# EAGLE library part 18016304401H (library WPME-CDIS)
WPME-CDIS Capacitive Digital Isolator Standard Characteristics 2- and 4-channel digital isolators Isolation voltage up to 5000 VRMS Basic (SOIC-8NB) and reinforced (SOIC-16WB) insulation Signal transmission in high-speed applications (data rate up to 150 Mbps) High level of immunity to system noise (CMTI ±150 kV/μs) Industrial standard package and pin configuration UL 1577 recognized DIN EN IEC 60747-17 (VDE 0884-17) certification Applications Isolated communication interfaces (SPI, CAN, RS-232, RS-485) Motor Control Industrial SMPS Test and measurement systems Microcontroller and DSP application Industrial automation Programmable logic controller (PLC) interfaces Battery management systems Solar inverters Level shifters <https://www.we-online.com/components/media/o758945v209%20Family-Image-onlinecatalog-Digital-Isolators.jpg> Details see: www.we-online.com/en/components/products/DIGITAL-ISOLATORS-WPME-CDIS_1 <www.we-online.com/catalog/DIGITAL-ISOLATORS-WPME-CDIS_1/?utm_source=eagle_model&utm_medium=description_link&utm_campaign=eisos_eagle> Created by Ella 2026-03-09 2026 (C) Würth Elektronik
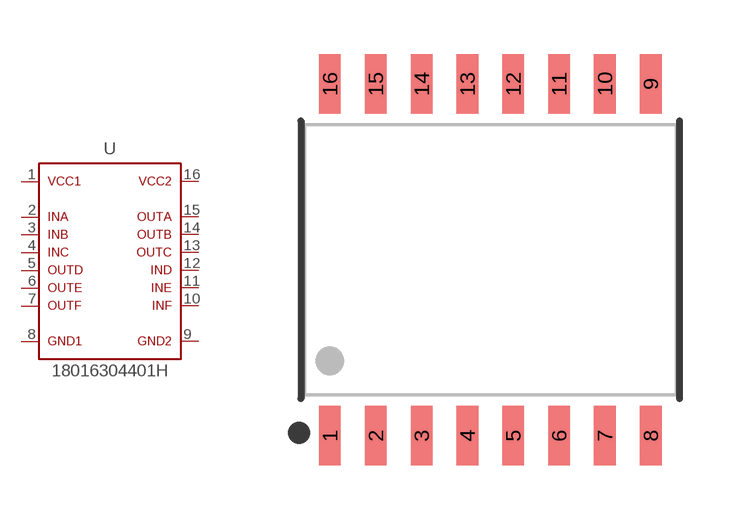
[diagram p18: symbol with the pads of WPME-CDIS_SOIC16WB_18016X; footprint WPME-CDIS_SOIC16WB_18016X]

Designator prefix U

## 18016304401H (CHANNEL-CONFIGURATION: 3/3; CMTI: 150 kV/us; DATASHEET-URL: https://www.we-online.com/redexpert/spec/18016304401H?ae; DR: 40 Mbps; HEIGHT: 2.65mm; LENGTH: 10.3mm; MOUNT: SMT; PART-NUMBER: 18016304401H; SIZE: SOIC 16WB; STANDARDAUSGABE: High; TPLH-TPHL: 22 ns; VALUE: 18016304401H; VCC-MAX: 5.5 V; VCC-MIN: 3 V; VISO: 5000 V (RMS); WIDTH: 10.3mm)  [WPME-CDIS_SOIC16WB_18016X]
1  1  pas
2  2  pas
3  3  pas
4  4  pas
5  5  pas
6  6  pas
7  7  pas
8  8  pas
9  9  pas
10  10  pas
11  11  pas
12  12  pas
13  13  pas
14  14  pas
15  15  pas
16  16  pas

## Footprint WPME-CDIS_SOIC16WB_18016X (pad centres in mm)
WPME-CDIS Capacitive Digital Isolator Standard Size: SOIC 16WB, SMT, 16pins LXWXH = 10.3X7.5X2.3mm
smd 0.6 x 1.65: 1 -4.445,-4.875; 2 -3.175,-4.875; 3 -1.905,-4.875; 4 -0.635,-4.875; 5 0.635,-4.875; 6 1.905,-4.875; 7 3.175,-4.875; 8 4.445,-4.875; 9 4.445,4.875; 10 3.175,4.875; 11 1.905,4.875; 12 0.635,4.875; 13 -0.635,4.875; 14 -1.905,4.875; 15 -3.175,4.875; 16 -4.445,4.875